# Altium schematic symbol library TI Analog Comparator.SchLib: 34 symbols
Pins are listed as number, name and electrical type; pins without a type are passive.

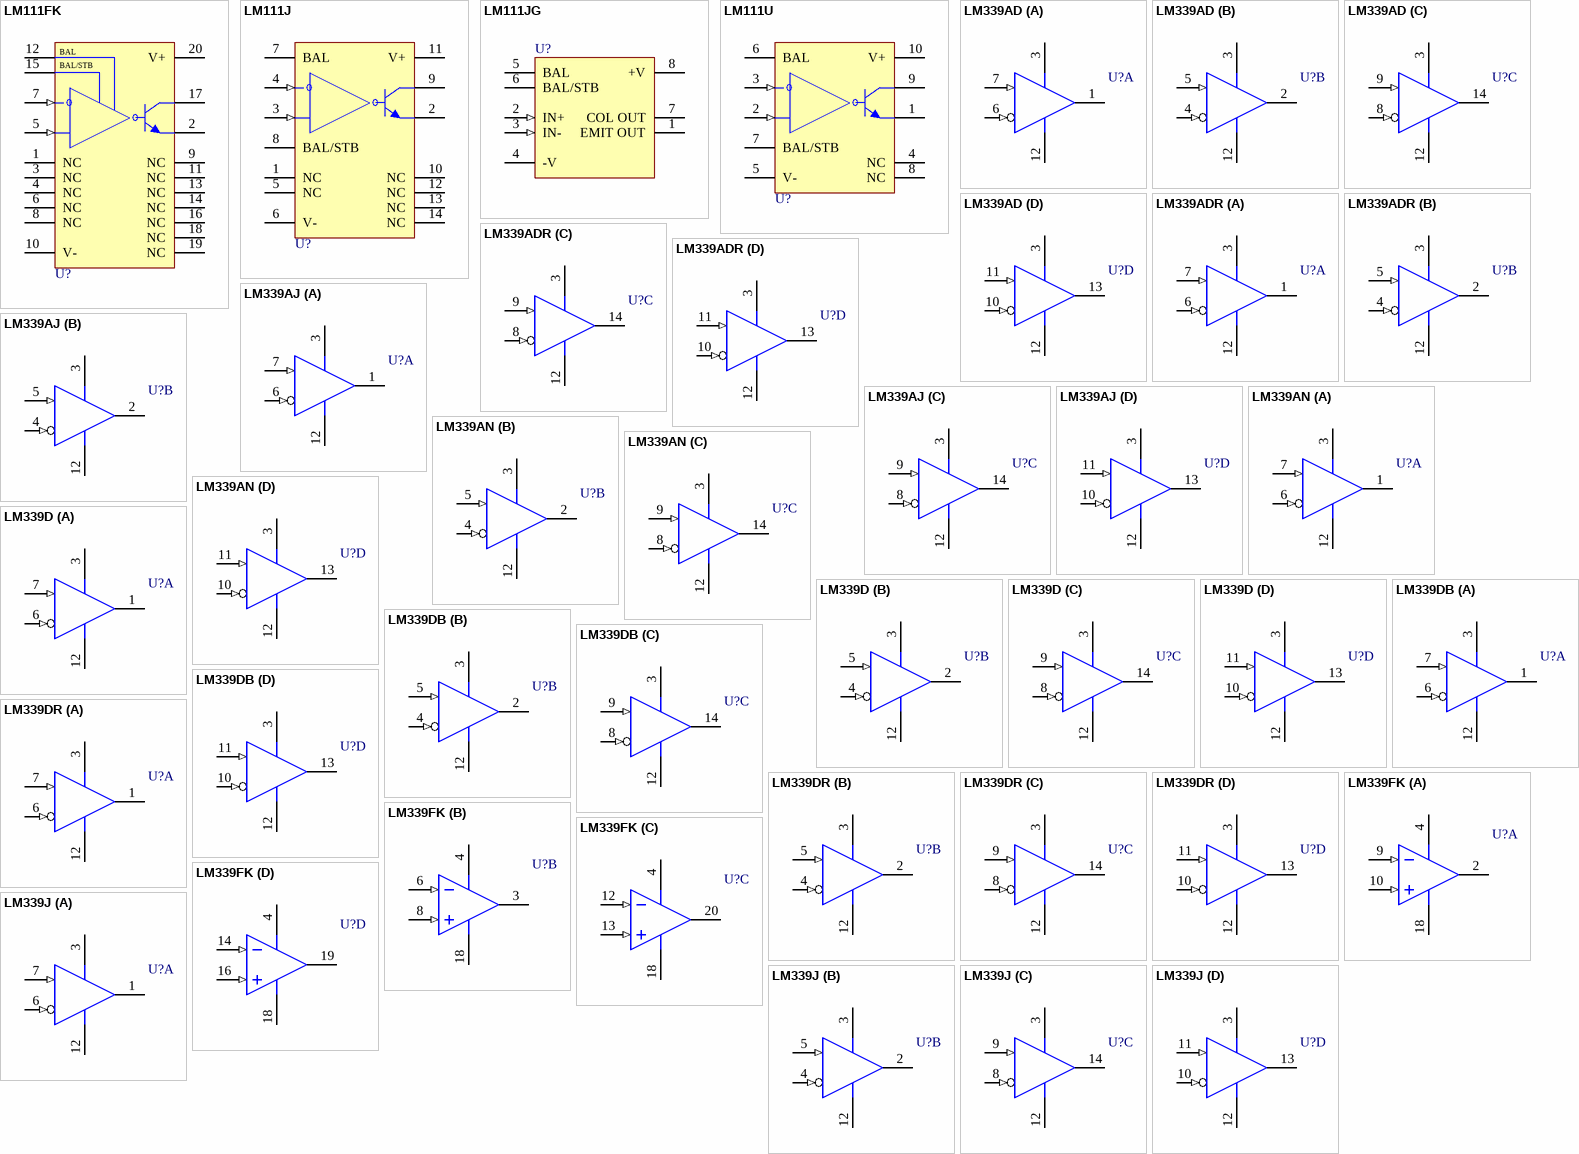
[diagram p0: symbols LM111FK to LM339J]

## LM111FK
designator U?
Differential Comparator with Strobe; Note: Pins 1, 3, 4, 6, 8, 9, 11, 13, 14, 16, 18 and 19 are NC pins.; Published: 16-Jan-2001; LatestRevisionDate: 20-Jul-2007; LatestRevisionNote: Sch Symbol changed.; DatasheetVersion: Feb-1992; PackageVersion: 1998; PackageReference: FK020; Publisher: Altium Limited; PackageDescription: Leadless Chip Carrier; 20 Terminals; Body 8.9 x 8.9 mm; ComponentLink1Description: Manufacturer Link; ComponentLink1URL: http://www.ti.com/; ComponentLink2Description: Datasheet; ComponentLink2URL: http://www-s.ti.com/sc/ds/lm111.pdf
footprint FK020 (Leadless Chip Carrier; 20 Terminals; Body 8.9 x 8.9 mm)
simulation model LM111 (SUBCKT)
pins: 1 NC, 2 EM OUT, 3 NC, 4 NC, 5 IN+ (in), 6 NC, 7 IN- (in), 8 NC, 9 NC, 10 V- (power), 11 NC, 12 BAL, 13 NC, 14 NC, 15 BAL/STB, 16 NC, 17 COL OUT, 18 NC, 19 NC, 20 V+ (power)

## LM111J
designator U?
Differential Comparator with Strobe; Note: Pins 1, 5, 10, 12, 13 and 14 are NC pins.; Published: 16-Jan-2001; LatestRevisionDate: 20-Jul-2007; LatestRevisionNote: Sch Symbol changed.; DatasheetVersion: Feb-1992; PackageVersion: Jun-1999; PackageReference: J014; Publisher: Altium Limited; PackageDescription: DIP; 14 Leads; Row Spacing 7.62 mm; Pitch 2.54 mm; ComponentLink1Description: Manufacturer Link; ComponentLink1URL: http://www.ti.com/; ComponentLink2Description: Datasheet; ComponentLink2URL: http://www-s.ti.com/sc/ds/lm111.pdf
footprint J014 (DIP; 14 Leads; Row Spacing 7.62 mm; Pitch 2.54 mm)
3D model J014 (DIP; 14 Leads; Row Spacing 7.62 mm; Pitch 2.54 mm)
simulation model LM111 (SUBCKT)
pins: 1 NC, 2 EM OUT, 3 IN+ (in), 4 IN- (in), 5 NC, 6 V- (power), 7 BAL, 8 BAL/STB, 9 COL OUT, 10 NC, 11 V+ (power), 12 NC, 13 NC, 14 NC

## LM111JG
designator U?
Differential Comparator with Strobe; Published: 16-Jan-2001; LatestRevisionDate: 04-Mar-2005; LatestRevisionNote: Stylized 3D Model Added.; DatasheetVersion: Feb-1992; PackageVersion: Jan-1995; PackageReference: JG008; Publisher: Altium Limited; PackageDescription: DIP; 8 Leads; Row Spacing 7.62 mm; Pitch 2.54 mm; ComponentLink1Description: Manufacturer Link; ComponentLink1URL: http://www.ti.com/; ComponentLink2Description: Datasheet; ComponentLink2URL: http://www-s.ti.com/sc/ds/lm111.pdf
footprint JG008 (DIP; 8 Leads; Row Spacing 7.62 mm; Pitch 2.54 mm)
3D model JG008 (DIP; 8 Leads; Row Spacing 7.62 mm; Pitch 2.54 mm)
simulation model LM111 (SUBCKT)
pins: 1 EMIT OUT (oe), 2 IN+ (in), 3 IN- (in), 4 -V (power), 5 BAL, 6 BAL/STB, 7 COL OUT (oc), 8 +V (power)

## LM111U
designator U?
Differential Comparator with Strobe; Note: Pins 4 and 8 are NC pins.; Published: 16-Jan-2001; LatestRevisionDate: 20-Jul-2007; LatestRevisionNote: Sch Symbol changed.; DatasheetVersion: Feb-1992; PackageVersion: Dec-1995; PackageReference: U010; Publisher: Altium Limited; PackageDescription: DFP; 10 Leads; Body 7.1 x 6.4 mm (LxW max); Pitch 1.27 mm; Code_JEDEC: MO-092-AA; ComponentLink1Description: Manufacturer Link; ComponentLink1URL: http://www.ti.com/; ComponentLink2Description: Datasheet; ComponentLink2URL: http://www-s.ti.com/sc/ds/lm111.pdf
footprint U010 (DFP; 10 Leads; Body 7.1 x 6.4 mm (LxW max); Pitch 1.27 mm)
3D model U010 (DFP; 10 Leads; Body 7.1 x 6.4 mm (LxW max); Pitch 1.27 mm)
simulation model LM111 (SUBCKT)
pins: 1 EM OUT, 2 IN+ (in), 3 IN- (in), 4 NC, 5 V- (power), 6 BAL, 7 BAL/STB, 8 NC, 9 COL OUT, 10 V+ (power)

## LM339AD
designator U?
Quad Differential Comparator; Published: 15-Apr-2002; LatestRevisionDate: 13-Apr-2006; LatestRevisionNote: IPC-7351 Footprint Added.; DatasheetVersion: Apr-1988; PackageVersion: Jan-1998; PackageReference: D014; Publisher: Altium Limited; PackageDescription: 14-Pin Small Outline Integrated Circuit 1.27 mm Pitch; Code_IPC: SOIC127P600-14; ComponentLink1Description: Manufacturer Link; ComponentLink1URL: http://www.ti.com/; ComponentLink2Description: Datasheet; ComponentLink2URL: http://www-s.ti.com/sc/ds/lm139a.pdf
footprint D014_N (SOIC, 14-Leads, Body 8.7x3.9mm, Pitch 1.27mm, IPC Medium Density)
footprint D014_L (SOIC, 14-Leads, Body 8.7x3.9mm, Pitch 1.27mm, IPC High Density)
footprint D014_M (SOIC, 14-Leads, Body 8.7x3.9mm, Pitch 1.27mm, IPC Low Density)
3D model D014 (14-Pin Small Outline Integrated Circuit 1.27 mm Pitch)
pins on every part: 3 VCC (power), 12 GND (power)
part A pins: 1 OUT (oc), 6 IN- (in), 7 IN+ (in)
part B pins: 2 OUT (oc), 4 IN- (in), 5 IN+ (in)
part C pins: 8 IN- (in), 9 IN+ (in), 14 OUT (oc)
part D pins: 10 IN- (in), 11 IN+ (in), 13 OUT (oc)

## LM339ADR
designator U?
Quad Differential Comparator; Published: 15-Apr-2002; LatestRevisionDate: 13-Apr-2006; LatestRevisionNote: IPC-7351 Footprint Added.; DatasheetVersion: Apr-1988; PackageVersion: Jan-1998; PackageReference: D014; Publisher: Altium Limited; PackageDescription: 14-Pin Small Outline Integrated Circuit 1.27 mm Pitch; Code_IPC: SOIC127P600-14; ComponentLink1Description: Manufacturer Link; ComponentLink1URL: http://www.ti.com/; ComponentLink2Description: Datasheet; ComponentLink2URL: http://www-s.ti.com/sc/ds/lm139a.pdf
footprint D014_N (SOIC, 14-Leads, Body 8.7x3.9mm, Pitch 1.27mm, IPC Medium Density)
footprint D014_L (SOIC, 14-Leads, Body 8.7x3.9mm, Pitch 1.27mm, IPC High Density)
footprint D014_M (SOIC, 14-Leads, Body 8.7x3.9mm, Pitch 1.27mm, IPC Low Density)
3D model D014 (14-Pin Small Outline Integrated Circuit 1.27 mm Pitch)
pins on every part: 3 VCC (power), 12 GND (power)
part A pins: 1 OUT (oc), 6 IN- (in), 7 IN+ (in)
part B pins: 2 OUT (oc), 4 IN- (in), 5 IN+ (in)
part C pins: 8 IN- (in), 9 IN+ (in), 14 OUT (oc)
part D pins: 10 IN- (in), 11 IN+ (in), 13 OUT (oc)

## LM339AJ
designator U?
Quad Differential Comparator; Published: 15-Apr-2002; LatestRevisionDate: 04-Mar-2005; LatestRevisionNote: Stylized 3D Model Added.; DatasheetVersion: Apr-1988; PackageVersion: Jun-1999; PackageReference: J014; Publisher: Altium Limited; PackageDescription: DIP; 14 Leads; Row Spacing 7.62 mm; Pitch 2.54 mm; ComponentLink1Description: Manufacturer Link; ComponentLink1URL: http://www.ti.com/; ComponentLink2Description: Datasheet; ComponentLink2URL: http://www-s.ti.com/sc/ds/lm139a.pdf
footprint J014 (DIP; 14 Leads; Row Spacing 7.62 mm; Pitch 2.54 mm)
3D model J014 (DIP; 14 Leads; Row Spacing 7.62 mm; Pitch 2.54 mm)
pins on every part: 3 VCC (power), 12 GND (power)
part A pins: 1 OUT (oc), 6 IN- (in), 7 IN+ (in)
part B pins: 2 OUT (oc), 4 IN- (in), 5 IN+ (in)
part C pins: 8 IN- (in), 9 IN+ (in), 14 OUT (oc)
part D pins: 10 IN- (in), 11 IN+ (in), 13 OUT (oc)

## LM339AN
designator U?
Quad Differential Comparator; Published: 15-Apr-2002; LatestRevisionDate: 04-Mar-2005; LatestRevisionNote: Stylized 3D Model Added.; DatasheetVersion: Apr-1988; PackageVersion: Oct-1995; PackageReference: N014; Publisher: Altium Limited; PackageDescription: DIP; 14 Leads; Row Spacing 7.62 mm; Pitch 2.54 mm; ComponentLink1Description: Manufacturer Link; ComponentLink1URL: http://www.ti.com/; ComponentLink2Description: Datasheet; ComponentLink2URL: http://www-s.ti.com/sc/ds/lm139a.pdf
footprint N014 (DIP; 14 Leads; Row Spacing 7.62 mm; Pitch 2.54 mm)
3D model N014 (DIP; 14 Leads; Row Spacing 7.62 mm; Pitch 2.54 mm)
pins on every part: 3 VCC (power), 12 GND (power)
part A pins: 1 OUT (oc), 6 IN- (in), 7 IN+ (in)
part B pins: 2 OUT (oc), 4 IN- (in), 5 IN+ (in)
part C pins: 8 IN- (in), 9 IN+ (in), 14 OUT (oc)
part D pins: 10 IN- (in), 11 IN+ (in), 13 OUT (oc)

## LM339D
designator U?
Quad Differential Comparator; Published: 16-Jan-2001; LatestRevisionDate: 20-Jul-2007; LatestRevisionNote: Sch Symbol changed.; DatasheetVersion: Nov-1996; PackageVersion: Jan-1998; PackageReference: D014; Publisher: Altium Limited; PackageDescription: 14-Pin Small Outline Integrated Circuit 1.27 mm Pitch; Code_IPC: SOIC127P600-14; ComponentLink1Description: Manufacturer Link; ComponentLink1URL: http://www.ti.com/; ComponentLink2Description: Datasheet; ComponentLink2URL: http://www-s.ti.com/sc/ds/lm339.pdf
footprint D014_N (SOIC, 14-Leads, Body 8.7x3.9mm, Pitch 1.27mm, IPC Medium Density)
footprint D014_L (SOIC, 14-Leads, Body 8.7x3.9mm, Pitch 1.27mm, IPC High Density)
footprint D014_M (SOIC, 14-Leads, Body 8.7x3.9mm, Pitch 1.27mm, IPC Low Density)
3D model D014 (14-Pin Small Outline Integrated Circuit 1.27 mm Pitch)
simulation model LM339 (SUBCKT)
pins on every part: 3 VCC (power), 12 GND (power)
part A pins: 1 OUT (oc), 6 IN- (in), 7 IN+ (in)
part B pins: 2 OUT (oc), 4 IN- (in), 5 IN+ (in)
part C pins: 8 IN- (in), 9 IN+ (in), 14 OUT (oc)
part D pins: 10 IN- (in), 11 IN+ (in), 13 OUT (oc)

## LM339DB
designator U?
Quad Differential Comparator; Published: 16-Jan-2001; LatestRevisionDate: 20-Jul-2007; LatestRevisionNote: Sch Symbol changed.; DatasheetVersion: Nov-1996; PackageVersion: May-1999; PackageReference: DB014; Publisher: Altium Limited; PackageDescription: 14-Pin Plastic Small Outline Package 0.65 mm Pitch; Code_JEDEC: MO-150-AB; Code_IPC: SOP65P780-14; ComponentLink1Description: Manufacturer Link; ComponentLink1URL: http://www.ti.com/; ComponentLink2Description: Datasheet; ComponentLink2URL: http://www-s.ti.com/sc/ds/lm339.pdf
footprint DB014_N (SOP, 14-Leads, Body 6.2x5.3mm, Pitch 0.65mm, IPC Medium Density)
footprint DB014_L (SOP, 14-Leads, Body 6.2x5.3mm, Pitch 0.65mm, IPC High Density)
footprint DB014_M (SOP, 14-Leads, Body 6.2x5.3mm, Pitch 0.65mm, IPC Low Density)
3D model DB014 (14-Pin Plastic Small Outline Package 0.65 mm Pitch)
simulation model LM339 (SUBCKT)
pins on every part: 3 VCC (power), 12 GND (power)
part A pins: 1 OUT (oc), 6 IN- (in), 7 IN+ (in)
part B pins: 2 OUT (oc), 4 IN- (in), 5 IN+ (in)
part C pins: 8 IN- (in), 9 IN+ (in), 14 OUT (oc)
part D pins: 10 IN- (in), 11 IN+ (in), 13 OUT (oc)

## LM339DR
designator U?
Quad Differential Comparator; Published: 15-Apr-2002; LatestRevisionDate: 13-Apr-2006; LatestRevisionNote: IPC-7351 Footprint Added.; DatasheetVersion: Apr-1988; PackageVersion: Jan-1998; PackageReference: D014; Publisher: Altium Limited; PackageDescription: 14-Pin Small Outline Integrated Circuit 1.27 mm Pitch; Code_IPC: SOIC127P600-14; ComponentLink1Description: Manufacturer Link; ComponentLink1URL: http://www.ti.com/; ComponentLink2Description: Datasheet; ComponentLink2URL: http://www-s.ti.com/sc/ds/lm139a.pdf
footprint D014_N (SOIC, 14-Leads, Body 8.7x3.9mm, Pitch 1.27mm, IPC Medium Density)
footprint D014_L (SOIC, 14-Leads, Body 8.7x3.9mm, Pitch 1.27mm, IPC High Density)
footprint D014_M (SOIC, 14-Leads, Body 8.7x3.9mm, Pitch 1.27mm, IPC Low Density)
3D model D014 (14-Pin Small Outline Integrated Circuit 1.27 mm Pitch)
pins on every part: 3 VCC (power), 12 GND (power)
part A pins: 1 OUT (oc), 6 IN- (in), 7 IN+ (in)
part B pins: 2 OUT (oc), 4 IN- (in), 5 IN+ (in)
part C pins: 8 IN- (in), 9 IN+ (in), 14 OUT (oc)
part D pins: 10 IN- (in), 11 IN+ (in), 13 OUT (oc)

## LM339FK
designator U?
Quad Differential Comparator; Note: Pins 1,5,7,11,15 and 17 are not connected or drawn; Published: 16-Jan-2001; LatestRevisionDate: 17-Jul-2002; LatestRevisionNote: Re-released for DXP Platform.; DatasheetVersion: Nov-1996; PackageVersion: 1998; PackageReference: FK020; Publisher: Altium Limited; PackageDescription: Leadless Chip Carrier; 20 Terminals; Body 8.9 x 8.9 mm; ComponentLink1Description: Manufacturer Link; ComponentLink1URL: http://www.ti.com/; ComponentLink2Description: Datasheet; ComponentLink2URL: http://www-s.ti.com/sc/ds/lm339.pdf
footprint FK020 (Leadless Chip Carrier; 20 Terminals; Body 8.9 x 8.9 mm)
simulation model LM339 (SUBCKT)
pins on every part: 4 V+ (power), 18 V- (power)
part A pins: 2 OUT (oc), 9 1IN- (in), 10 1IN+ (in)
part B pins: 3 OUT (oc), 6 IN- (in), 8 IN+ (in)
part C pins: 12 IN- (in), 13 IN+ (in), 20 OUT (oc)
part D pins: 14 IN- (in), 16 IN+ (in), 19 OUT (oc)

## LM339J
designator U?
Quad Differential Comparator; Published: 16-Jan-2001; LatestRevisionDate: 20-Jul-2007; LatestRevisionNote: Sch Symbol changed.; DatasheetVersion: Nov-1996; PackageVersion: Jun-1999; PackageReference: J014; Publisher: Altium Limited; PackageDescription: DIP; 14 Leads; Row Spacing 7.62 mm; Pitch 2.54 mm; ComponentLink1Description: Manufacturer Link; ComponentLink1URL: http://www.ti.com/; ComponentLink2Description: Datasheet; ComponentLink2URL: http://www-s.ti.com/sc/ds/lm339.pdf
footprint J014 (DIP; 14 Leads; Row Spacing 7.62 mm; Pitch 2.54 mm)
3D model J014 (DIP; 14 Leads; Row Spacing 7.62 mm; Pitch 2.54 mm)
simulation model LM339 (SUBCKT)
pins on every part: 3 VCC (power), 12 GND (power)
part A pins: 1 OUT (oc), 6 IN- (in), 7 IN+ (in)
part B pins: 2 OUT (oc), 4 IN- (in), 5 IN+ (in)
part C pins: 8 IN- (in), 9 IN+ (in), 14 OUT (oc)
part D pins: 10 IN- (in), 11 IN+ (in), 13 OUT (oc)

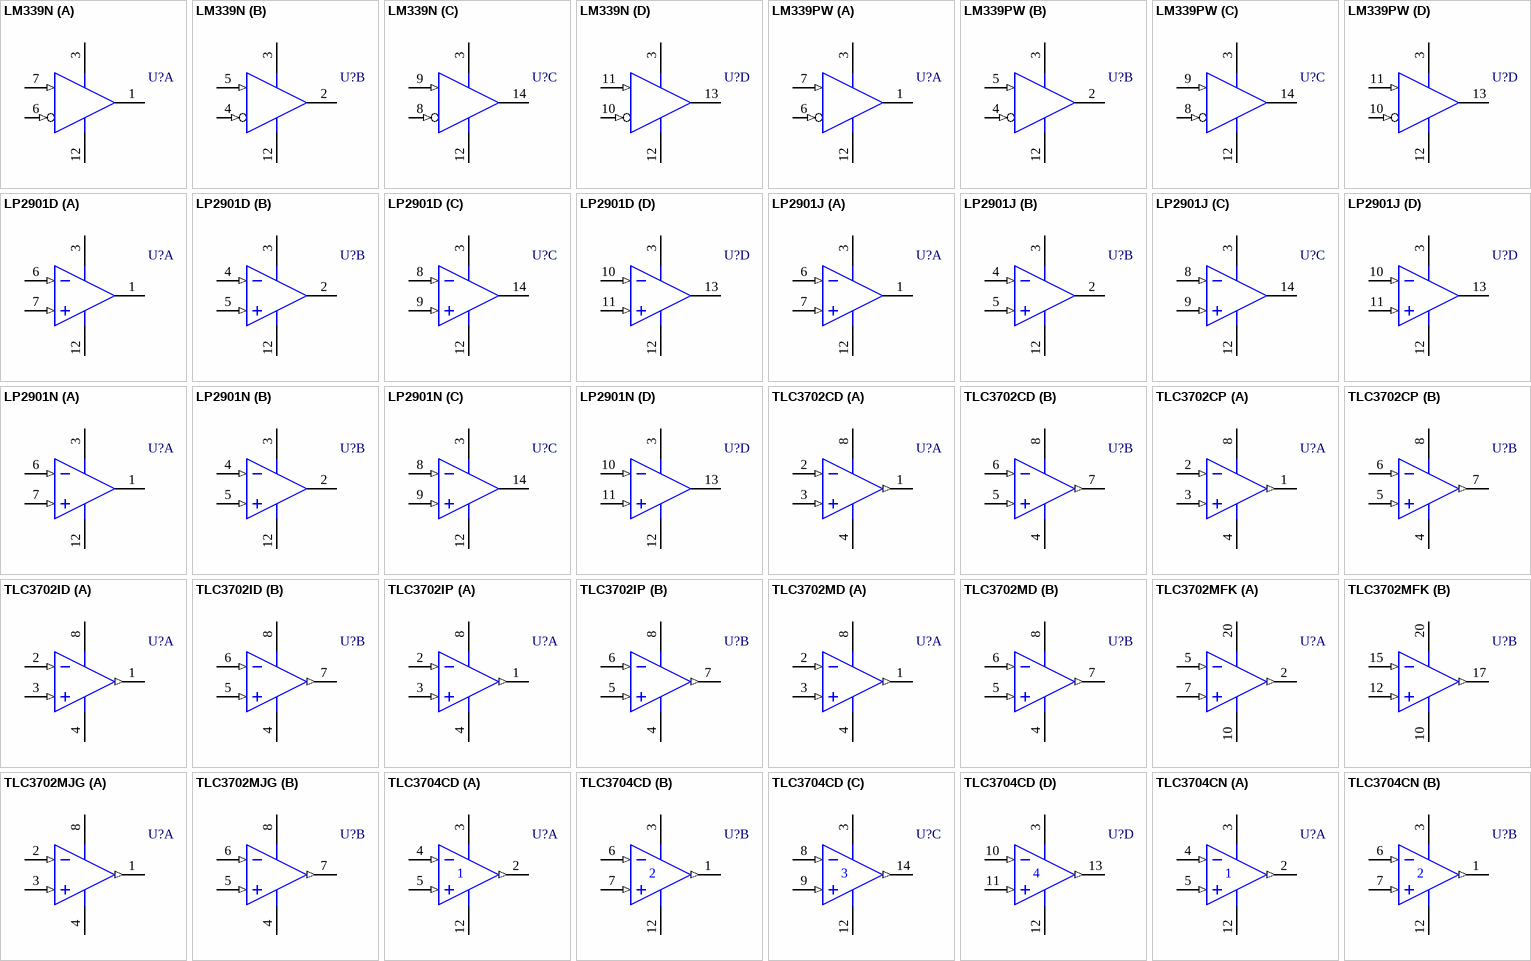
[diagram p1: symbols LM339N to TLC3704CN]

## LM339N
designator U?
Quad Differential Comparator; Published: 16-Jan-2001; LatestRevisionDate: 20-Jul-2007; LatestRevisionNote: Sch Symbol changed.; DatasheetVersion: Nov-1996; PackageVersion: Oct-1995; PackageReference: N014; Publisher: Altium Limited; PackageDescription: DIP; 14 Leads; Row Spacing 7.62 mm; Pitch 2.54 mm; ComponentLink1Description: Manufacturer Link; ComponentLink1URL: http://www.ti.com/; ComponentLink2Description: Datasheet; ComponentLink2URL: http://www-s.ti.com/sc/ds/lm339.pdf
footprint N014 (DIP; 14 Leads; Row Spacing 7.62 mm; Pitch 2.54 mm)
3D model N014 (DIP; 14 Leads; Row Spacing 7.62 mm; Pitch 2.54 mm)
simulation model LM339 (SUBCKT)
pins on every part: 3 VCC (power), 12 GND (power)
part A pins: 1 OUT (oc), 6 IN- (in), 7 IN+ (in)
part B pins: 2 OUT (oc), 4 IN- (in), 5 IN+ (in)
part C pins: 8 IN- (in), 9 IN+ (in), 14 OUT (oc)
part D pins: 10 IN- (in), 11 IN+ (in), 13 OUT (oc)

## LM339PW
designator U?
Quad Differential Comparator; Published: 16-Jan-2001; LatestRevisionDate: 20-Jul-2007; LatestRevisionNote: Sch Symbol changed.; DatasheetVersion: Nov-1996; PackageVersion: Feb-1999; PackageReference: PW014; Publisher: Altium Limited; PackageDescription: 14-Pin Thin Small Outline Package 0.65 mm Pitch; ComponentLink1Description: Manufacturer Link; ComponentLink1URL: http://www.ti.com/; ComponentLink2Description: Datasheet; ComponentLink2URL: http://www-s.ti.com/sc/ds/lm339.pdf
footprint PW014_N (TSOP, 14-Leads, Body 5x4.4mm, Pitch 0.65mm, IPC Medium Density)
footprint PW014_L (TSOP, 14-Leads, Body 5x4.4mm, Pitch 0.65mm, IPC High Density)
footprint PW014_M (TSOP, 14-Leads, Body 5x4.4mm, Pitch 0.65mm, IPC Low Density)
3D model PW014 (14-Pin Thin Small Outline Package 0.65 mm Pitch)
simulation model LM339 (SUBCKT)
pins on every part: 3 VCC (power), 12 GND (power)
part A pins: 1 OUT (oc), 6 IN- (in), 7 IN+ (in)
part B pins: 2 OUT (oc), 4 IN- (in), 5 IN+ (in)
part C pins: 8 IN- (in), 9 IN+ (in), 14 OUT (oc)
part D pins: 10 IN- (in), 11 IN+ (in), 13 OUT (oc)

## LP2901D
designator U?
Low Power Quad Differential Comparator; Published: 16-Jan-2001; LatestRevisionDate: 13-Apr-2006; LatestRevisionNote: IPC-7351 Footprint Added.; DatasheetVersion: May-1988; PackageVersion: Jan-1998; PackageReference: D014; Publisher: Altium Limited; PackageDescription: 14-Pin Small Outline Integrated Circuit 1.27 mm Pitch; Code_IPC: SOIC127P600-14; ComponentLink1Description: Manufacturer Link; ComponentLink1URL: http://www.ti.com/; ComponentLink2Description: Datasheet; ComponentLink2URL: http://www-s.ti.com/sc/ds/lp2901.pdf
footprint D014_N (SOIC, 14-Leads, Body 8.7x3.9mm, Pitch 1.27mm, IPC Medium Density)
footprint D014_L (SOIC, 14-Leads, Body 8.7x3.9mm, Pitch 1.27mm, IPC High Density)
footprint D014_M (SOIC, 14-Leads, Body 8.7x3.9mm, Pitch 1.27mm, IPC Low Density)
3D model D014 (14-Pin Small Outline Integrated Circuit 1.27 mm Pitch)
simulation model LP2901 (SUBCKT)
pins on every part: 3 V+ (power), 12 V- (power)
part A pins: 1 OUT (oc), 6 IN- (in), 7 IN+ (in)
part B pins: 2 OUT (oc), 4 IN- (in), 5 IN+ (in)
part C pins: 8 IN- (in), 9 IN+ (in), 14 OUT (oc)
part D pins: 10 IN- (in), 11 IN+ (in), 13 OUT (oc)

## LP2901J
designator U?
Low Power Quad Differential Comparator; Published: 16-Jan-2001; LatestRevisionDate: 04-Mar-2005; LatestRevisionNote: Stylized 3D Model Added.; DatasheetVersion: May-1988; PackageVersion: Jun-1999; PackageReference: J014; Publisher: Altium Limited; PackageDescription: DIP; 14 Leads; Row Spacing 7.62 mm; Pitch 2.54 mm; ComponentLink1Description: Manufacturer Link; ComponentLink1URL: http://www.ti.com/; ComponentLink2Description: Datasheet; ComponentLink2URL: http://www-s.ti.com/sc/ds/lp2901.pdf
footprint J014 (DIP; 14 Leads; Row Spacing 7.62 mm; Pitch 2.54 mm)
3D model J014 (DIP; 14 Leads; Row Spacing 7.62 mm; Pitch 2.54 mm)
simulation model LP2901 (SUBCKT)
pins on every part: 3 V+ (power), 12 V- (power)
part A pins: 1 OUT (oc), 6 IN- (in), 7 IN+ (in)
part B pins: 2 OUT (oc), 4 IN- (in), 5 IN+ (in)
part C pins: 8 IN- (in), 9 IN+ (in), 14 OUT (oc)
part D pins: 10 IN- (in), 11 IN+ (in), 13 OUT (oc)

## LP2901N
designator U?
Low Power Quad Differential Comparator; Published: 16-Jan-2001; LatestRevisionDate: 04-Mar-2005; LatestRevisionNote: Stylized 3D Model Added.; DatasheetVersion: May-1988; PackageVersion: Oct-1995; PackageReference: N014; Publisher: Altium Limited; PackageDescription: DIP; 14 Leads; Row Spacing 7.62 mm; Pitch 2.54 mm; ComponentLink1Description: Manufacturer Link; ComponentLink1URL: http://www.ti.com/; ComponentLink2Description: Datasheet; ComponentLink2URL: http://www-s.ti.com/sc/ds/lp2901.pdf
footprint N014 (DIP; 14 Leads; Row Spacing 7.62 mm; Pitch 2.54 mm)
3D model N014 (DIP; 14 Leads; Row Spacing 7.62 mm; Pitch 2.54 mm)
simulation model LP2901 (SUBCKT)
pins on every part: 3 V+ (power), 12 V- (power)
part A pins: 1 OUT (oc), 6 IN- (in), 7 IN+ (in)
part B pins: 2 OUT (oc), 4 IN- (in), 5 IN+ (in)
part C pins: 8 IN- (in), 9 IN+ (in), 14 OUT (oc)
part D pins: 10 IN- (in), 11 IN+ (in), 13 OUT (oc)

## TLC3702CD
designator U?
Dual Micropower LinCMOS Voltage Comparator; Published: 23-Sep-2002; LatestRevisionDate: 13-Apr-2006; LatestRevisionNote: IPC-7351 Footprint Added.; DatasheetVersion: Nov-1998; PackageVersion: Jan-1998; PackageReference: D008; Publisher: Altium Limited; PackageDescription: 8-Pin Small Outline Integrated Circuit 1.27 mm Pitch; Code_IPC: SOIC127P600-8; ComponentLink1Description: Manufacturer Link; ComponentLink1URL: http://www.ti.com/; ComponentLink2Description: Datasheet; ComponentLink2URL: http://www-s.ti.com/sc/ds/tlc3702.pdf
footprint D008_L (SOIC, 8-Leads, Body 4.9x3.9mm, Pitch 1.27mm, IPC High Density)
footprint D008_M (SOIC, 8-Leads, Body 4.9x3.9mm, Pitch 1.27mm, IPC Low Density)
footprint D008_M (SOIC, 8-Leads, Body 4.9x3.9mm, Pitch 1.27mm, IPC Low Density)
3D model D008 (8-Pin Small Outline Integrated Circuit 1.27 mm Pitch)
simulation model TLC3702 (SUBCKT)
pins on every part: 4 GND (power), 8 V+ (power)
part A pins: 1 OUT (out), 2 IN- (in), 3 IN+ (in)
part B pins: 5 IN+ (in), 6 IN- (in), 7 OUT (out)

## TLC3702CP
designator U?
Dual Micropower LinCMOS Voltage Comparator; Published: 23-Sep-2002; LatestRevisionDate: 04-Mar-2005; LatestRevisionNote: Stylized 3D Model Added.; DatasheetVersion: Nov-1998; PackageVersion: Jun-1999; PackageReference: P008; Publisher: Altium Limited; PackageDescription: DIP; 8 Leads; Row Spacing 7.62 mm; Pitch 2.54 mm; Code_JEDEC: MO-001-AN; ComponentLink1Description: Manufacturer Link; ComponentLink1URL: http://www.ti.com/; ComponentLink2Description: Datasheet; ComponentLink2URL: http://www-s.ti.com/sc/ds/tlc3702.pdf
footprint P008 (DIP; 8 Leads; Row Spacing 7.62 mm; Pitch 2.54 mm)
3D model P008 (DIP; 8 Leads; Row Spacing 7.62 mm; Pitch 2.54 mm)
simulation model TLC3702 (SUBCKT)
pins on every part: 4 GND (power), 8 V+ (power)
part A pins: 1 OUT (out), 2 IN- (in), 3 IN+ (in)
part B pins: 5 IN+ (in), 6 IN- (in), 7 OUT (out)

## TLC3702ID
designator U?
Dual Micropower LinCMOS Voltage Comparator; Published: 23-Sep-2002; LatestRevisionDate: 13-Apr-2006; LatestRevisionNote: IPC-7351 Footprint Added.; DatasheetVersion: Nov-1998; PackageVersion: Jan-1998; PackageReference: D008; Publisher: Altium Limited; PackageDescription: 8-Pin Small Outline Integrated Circuit 1.27 mm Pitch; Code_IPC: SOIC127P600-8; ComponentLink1Description: Manufacturer Link; ComponentLink1URL: http://www.ti.com/; ComponentLink2Description: Datasheet; ComponentLink2URL: http://www-s.ti.com/sc/ds/tlc3702.pdf
footprint D008_L (SOIC, 8-Leads, Body 4.9x3.9mm, Pitch 1.27mm, IPC High Density)
footprint D008_M (SOIC, 8-Leads, Body 4.9x3.9mm, Pitch 1.27mm, IPC Low Density)
footprint D008_M (SOIC, 8-Leads, Body 4.9x3.9mm, Pitch 1.27mm, IPC Low Density)
3D model D008 (8-Pin Small Outline Integrated Circuit 1.27 mm Pitch)
simulation model TLC3702 (SUBCKT)
pins on every part: 4 GND (power), 8 V+ (power)
part A pins: 1 OUT (out), 2 IN- (in), 3 IN+ (in)
part B pins: 5 IN+ (in), 6 IN- (in), 7 OUT (out)

## TLC3702IP
designator U?
Dual Micropower LinCMOS Voltage Comparator; Published: 23-Sep-2002; LatestRevisionDate: 04-Mar-2005; LatestRevisionNote: Stylized 3D Model Added.; DatasheetVersion: Nov-1998; PackageVersion: Jun-1999; PackageReference: P008; Publisher: Altium Limited; PackageDescription: DIP; 8 Leads; Row Spacing 7.62 mm; Pitch 2.54 mm; Code_JEDEC: MO-001-AN; ComponentLink1Description: Manufacturer Link; ComponentLink1URL: http://www.ti.com/; ComponentLink2Description: Datasheet; ComponentLink2URL: http://www-s.ti.com/sc/ds/tlc3702.pdf
footprint P008 (DIP; 8 Leads; Row Spacing 7.62 mm; Pitch 2.54 mm)
3D model P008 (DIP; 8 Leads; Row Spacing 7.62 mm; Pitch 2.54 mm)
simulation model TLC3702 (SUBCKT)
pins on every part: 4 GND (power), 8 V+ (power)
part A pins: 1 OUT (out), 2 IN- (in), 3 IN+ (in)
part B pins: 5 IN+ (in), 6 IN- (in), 7 OUT (out)

## TLC3702MD
designator U?
Dual Micropower LinCMOS Voltage Comparator; Published: 23-Sep-2002; LatestRevisionDate: 13-Apr-2006; LatestRevisionNote: IPC-7351 Footprint Added.; DatasheetVersion: Nov-1998; PackageVersion: Jan-1998; PackageReference: D008; Publisher: Altium Limited; PackageDescription: 8-Pin Small Outline Integrated Circuit 1.27 mm Pitch; Code_IPC: SOIC127P600-8; ComponentLink1Description: Manufacturer Link; ComponentLink1URL: http://www.ti.com/; ComponentLink2Description: Datasheet; ComponentLink2URL: http://www-s.ti.com/sc/ds/tlc3702.pdf
footprint D008_L (SOIC, 8-Leads, Body 4.9x3.9mm, Pitch 1.27mm, IPC High Density)
footprint D008_M (SOIC, 8-Leads, Body 4.9x3.9mm, Pitch 1.27mm, IPC Low Density)
footprint D008_M (SOIC, 8-Leads, Body 4.9x3.9mm, Pitch 1.27mm, IPC Low Density)
3D model D008 (8-Pin Small Outline Integrated Circuit 1.27 mm Pitch)
simulation model TLC3702 (SUBCKT)
pins on every part: 4 GND (power), 8 V+ (power)
part A pins: 1 OUT (out), 2 IN- (in), 3 IN+ (in)
part B pins: 5 IN+ (in), 6 IN- (in), 7 OUT (out)

## TLC3702MFK
designator U?
Dual Micropower LinCMOS Voltage Comparator; Note: 1,3,4,6,8,9,11,13,14,16,18 and 19 are NC pins and not drawn.; Published: 23-Sep-2002; DatasheetVersion: Nov-1998; PackageVersion: 1998; PackageReference: FK020; Publisher: Altium Limited; PackageDescription: Leadless Chip Carrier; 20 Terminals; Body 8.9 x 8.9 mm; ComponentLink1Description: Manufacturer Link; ComponentLink1URL: http://www.ti.com/; ComponentLink2Description: Datasheet; ComponentLink2URL: http://www-s.ti.com/sc/ds/tlc3702.pdf
footprint FK020 (Leadless Chip Carrier; 20 Terminals; Body 8.9 x 8.9 mm)
simulation model TLC3702 (SUBCKT)
pins on every part: 10 GND (power), 20 V+ (power)
part A pins: 2 OUT (out), 5 IN- (in), 7 IN+ (in)
part B pins: 12 IN+ (in), 15 IN- (in), 17 OUT (out)

## TLC3702MJG
designator U?
Dual Micropower LinCMOS Voltage Comparator; Published: 23-Sep-2002; LatestRevisionDate: 04-Mar-2005; LatestRevisionNote: Stylized 3D Model Added.; DatasheetVersion: Nov-1998; PackageVersion: Jan-1995; PackageReference: JG008; Publisher: Altium Limited; PackageDescription: DIP; 8 Leads; Row Spacing 7.62 mm; Pitch 2.54 mm; ComponentLink1Description: Manufacturer Link; ComponentLink1URL: http://www.ti.com/; ComponentLink2Description: Datasheet; ComponentLink2URL: http://www-s.ti.com/sc/ds/tlc3702.pdf
footprint JG008 (DIP; 8 Leads; Row Spacing 7.62 mm; Pitch 2.54 mm)
3D model JG008 (DIP; 8 Leads; Row Spacing 7.62 mm; Pitch 2.54 mm)
simulation model TLC3702 (SUBCKT)
pins on every part: 4 GND (power), 8 V+ (power)
part A pins: 1 OUT (out), 2 IN- (in), 3 IN+ (in)
part B pins: 5 IN+ (in), 6 IN- (in), 7 OUT (out)

## TLC3704CD
designator U?
Quad Micropower LinCMOS Voltage Comparator; Published: 23-Sep-2002; LatestRevisionDate: 13-Apr-2006; LatestRevisionNote: IPC-7351 Footprint Added.; DatasheetVersion: Jan-2002; PackageVersion: Jan-1998; PackageReference: D014; Publisher: Altium Limited; PackageDescription: 14-Pin Small Outline Integrated Circuit 1.27 mm Pitch; Code_IPC: SOIC127P600-14; ComponentLink1Description: Manufacturer Link; ComponentLink1URL: http://www.ti.com/; ComponentLink2Description: Datasheet; ComponentLink2URL: http://www-s.ti.com/sc/ds/tlc3704.pdf
footprint D014_N (SOIC, 14-Leads, Body 8.7x3.9mm, Pitch 1.27mm, IPC Medium Density)
footprint D014_L (SOIC, 14-Leads, Body 8.7x3.9mm, Pitch 1.27mm, IPC High Density)
footprint D014_M (SOIC, 14-Leads, Body 8.7x3.9mm, Pitch 1.27mm, IPC Low Density)
3D model D014 (14-Pin Small Outline Integrated Circuit 1.27 mm Pitch)
simulation model TLC3704 (SUBCKT)
pins on every part: 3 VCC (power), 12 GND (power)
part A pins: 2 OUT (out), 4 IN- (in), 5 IN+ (in)
part B pins: 1 OUT (out), 6 IN- (in), 7 IN+ (in)
part C pins: 8 IN- (in), 9 IN+ (in), 14 OUT (out)
part D pins: 10 IN- (in), 11 IN+ (in), 13 OUT (out)

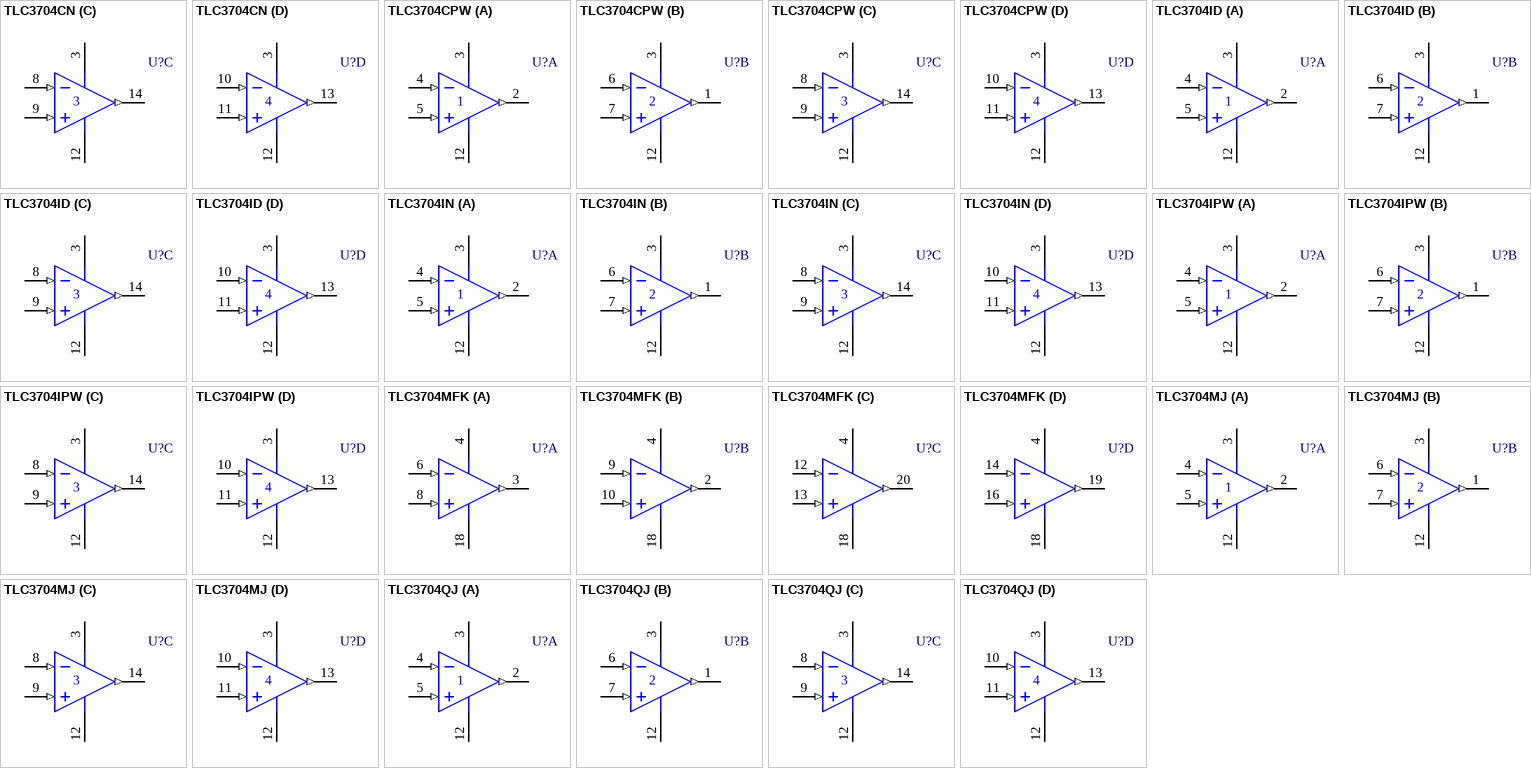
[diagram p2: symbols TLC3704CN to TLC3704QJ]

## TLC3704CN
designator U?
Quad Micropower LinCMOS Voltage Comparator; Published: 23-Sep-2002; LatestRevisionDate: 04-Mar-2005; LatestRevisionNote: Stylized 3D Model Added.; DatasheetVersion: Jan-2002; PackageVersion: Oct-1995; PackageReference: N014; Publisher: Altium Limited; PackageDescription: DIP; 14 Leads; Row Spacing 7.62 mm; Pitch 2.54 mm; ComponentLink1Description: Manufacturer Link; ComponentLink1URL: http://www.ti.com/; ComponentLink2Description: Datasheet; ComponentLink2URL: http://www-s.ti.com/sc/ds/tlc3704.pdf
footprint N014 (DIP; 14 Leads; Row Spacing 7.62 mm; Pitch 2.54 mm)
3D model N014 (DIP; 14 Leads; Row Spacing 7.62 mm; Pitch 2.54 mm)
simulation model TLC3704 (SUBCKT)
pins on every part: 3 VCC (power), 12 GND (power)
part A pins: 2 OUT (out), 4 IN- (in), 5 IN+ (in)
part B pins: 1 OUT (out), 6 IN- (in), 7 IN+ (in)
part C pins: 8 IN- (in), 9 IN+ (in), 14 OUT (out)
part D pins: 10 IN- (in), 11 IN+ (in), 13 OUT (out)

## TLC3704CPW
designator U?
Quad Micropower LinCMOS Voltage Comparator; Published: 23-Sep-2002; LatestRevisionDate: 16-Oct-2006; LatestRevisionNote: IPC-7351 Footprint Added.; DatasheetVersion: Jan-2002; PackageVersion: Feb-1999; PackageReference: PW014; Publisher: Altium Limited; PackageDescription: 14-Pin Thin Small Outline Package 0.65 mm Pitch; ComponentLink1Description: Manufacturer Link; ComponentLink1URL: http://www.ti.com/; ComponentLink2Description: Datasheet; ComponentLink2URL: http://www-s.ti.com/sc/ds/tlc3704.pdf
footprint PW014_N (TSOP, 14-Leads, Body 5x4.4mm, Pitch 0.65mm, IPC Medium Density)
footprint PW014_L (TSOP, 14-Leads, Body 5x4.4mm, Pitch 0.65mm, IPC High Density)
footprint PW014_M (TSOP, 14-Leads, Body 5x4.4mm, Pitch 0.65mm, IPC Low Density)
3D model PW014 (14-Pin Thin Small Outline Package 0.65 mm Pitch)
simulation model TLC3704 (SUBCKT)
pins on every part: 3 VCC (power), 12 GND (power)
part A pins: 2 OUT (out), 4 IN- (in), 5 IN+ (in)
part B pins: 1 OUT (out), 6 IN- (in), 7 IN+ (in)
part C pins: 8 IN- (in), 9 IN+ (in), 14 OUT (out)
part D pins: 10 IN- (in), 11 IN+ (in), 13 OUT (out)

## TLC3704ID
designator U?
Quad Micropower LinCMOS Voltage Comparator; Published: 23-Sep-2002; LatestRevisionDate: 13-Apr-2006; LatestRevisionNote: IPC-7351 Footprint Added.; DatasheetVersion: Jan-2002; PackageVersion: Jan-1998; PackageReference: D014; Publisher: Altium Limited; PackageDescription: 14-Pin Small Outline Integrated Circuit 1.27 mm Pitch; Code_IPC: SOIC127P600-14; ComponentLink1Description: Manufacturer Link; ComponentLink1URL: http://www.ti.com/; ComponentLink2Description: Datasheet; ComponentLink2URL: http://www-s.ti.com/sc/ds/tlc3704.pdf
footprint D014_N (SOIC, 14-Leads, Body 8.7x3.9mm, Pitch 1.27mm, IPC Medium Density)
footprint D014_L (SOIC, 14-Leads, Body 8.7x3.9mm, Pitch 1.27mm, IPC High Density)
footprint D014_M (SOIC, 14-Leads, Body 8.7x3.9mm, Pitch 1.27mm, IPC Low Density)
3D model D014 (14-Pin Small Outline Integrated Circuit 1.27 mm Pitch)
simulation model TLC3704 (SUBCKT)
pins on every part: 3 VCC (power), 12 GND (power)
part A pins: 2 OUT (out), 4 IN- (in), 5 IN+ (in)
part B pins: 1 OUT (out), 6 IN- (in), 7 IN+ (in)
part C pins: 8 IN- (in), 9 IN+ (in), 14 OUT (out)
part D pins: 10 IN- (in), 11 IN+ (in), 13 OUT (out)

## TLC3704IN
designator U?
Quad Micropower LinCMOS Voltage Comparator; Published: 23-Sep-2002; LatestRevisionDate: 04-Mar-2005; LatestRevisionNote: Stylized 3D Model Added.; DatasheetVersion: Jan-2002; PackageVersion: Oct-1995; PackageReference: N014; Publisher: Altium Limited; PackageDescription: DIP; 14 Leads; Row Spacing 7.62 mm; Pitch 2.54 mm; ComponentLink1Description: Manufacturer Link; ComponentLink1URL: http://www.ti.com/; ComponentLink2Description: Datasheet; ComponentLink2URL: http://www-s.ti.com/sc/ds/tlc3704.pdf
footprint N014 (DIP; 14 Leads; Row Spacing 7.62 mm; Pitch 2.54 mm)
3D model N014 (DIP; 14 Leads; Row Spacing 7.62 mm; Pitch 2.54 mm)
simulation model TLC3704 (SUBCKT)
pins on every part: 3 VCC (power), 12 GND (power)
part A pins: 2 OUT (out), 4 IN- (in), 5 IN+ (in)
part B pins: 1 OUT (out), 6 IN- (in), 7 IN+ (in)
part C pins: 8 IN- (in), 9 IN+ (in), 14 OUT (out)
part D pins: 10 IN- (in), 11 IN+ (in), 13 OUT (out)

## TLC3704IPW
designator U?
Quad Micropower LinCMOS Voltage Comparator; Published: 23-Sep-2002; LatestRevisionDate: 16-Oct-2006; LatestRevisionNote: IPC-7351 Footprint Added.; DatasheetVersion: Jan-2002; PackageVersion: Feb-1999; PackageReference: PW014; Publisher: Altium Limited; PackageDescription: 14-Pin Thin Small Outline Package 0.65 mm Pitch; ComponentLink1Description: Manufacturer Link; ComponentLink1URL: http://www.ti.com/; ComponentLink2Description: Datasheet; ComponentLink2URL: http://www-s.ti.com/sc/ds/tlc3704.pdf
footprint PW014_N (TSOP, 14-Leads, Body 5x4.4mm, Pitch 0.65mm, IPC Medium Density)
footprint PW014_L (TSOP, 14-Leads, Body 5x4.4mm, Pitch 0.65mm, IPC High Density)
footprint PW014_M (TSOP, 14-Leads, Body 5x4.4mm, Pitch 0.65mm, IPC Low Density)
3D model PW014 (14-Pin Thin Small Outline Package 0.65 mm Pitch)
simulation model TLC3704 (SUBCKT)
pins on every part: 3 VCC (power), 12 GND (power)
part A pins: 2 OUT (out), 4 IN- (in), 5 IN+ (in)
part B pins: 1 OUT (out), 6 IN- (in), 7 IN+ (in)
part C pins: 8 IN- (in), 9 IN+ (in), 14 OUT (out)
part D pins: 10 IN- (in), 11 IN+ (in), 13 OUT (out)

## TLC3704MFK
designator U?
Quad Micropower LinCMOS Voltage Comparator; Note: 1,5,7,11,15 and 17 are NC pins and not drawn.; Published: 23-Sep-2002; DatasheetVersion: Jan-2002; PackageVersion: 1998; PackageReference: FK020; Publisher: Altium Limited; PackageDescription: Leadless Chip Carrier; 20 Terminals; Body 8.9 x 8.9 mm; ComponentLink1Description: Manufacturer Link; ComponentLink1URL: http://www.ti.com/; ComponentLink2Description: Datasheet; ComponentLink2URL: http://www-s.ti.com/sc/ds/tlc3704.pdf
footprint FK020 (Leadless Chip Carrier; 20 Terminals; Body 8.9 x 8.9 mm)
simulation model TLC3704 (SUBCKT)
pins on every part: 4 V+ (power), 18 GND (power)
part A pins: 3 OUT (out), 6 IN- (in), 8 IN+ (in)
part B pins: 2 OUT (out), 9 IN- (in), 10 IN+ (in)
part C pins: 12 IN- (in), 13 IN+ (in), 20 OUT (out)
part D pins: 14 IN- (in), 16 IN+ (in), 19 OUT (out)

## TLC3704MJ
designator U?
Quad Micropower LinCMOS Voltage Comparator; Published: 23-Sep-2002; LatestRevisionDate: 04-Mar-2005; LatestRevisionNote: Stylized 3D Model Added.; DatasheetVersion: Jan-2002; PackageVersion: Jun-1999; PackageReference: J014; Publisher: Altium Limited; PackageDescription: DIP; 14 Leads; Row Spacing 7.62 mm; Pitch 2.54 mm; ComponentLink1Description: Manufacturer Link; ComponentLink1URL: http://www.ti.com/; ComponentLink2Description: Datasheet; ComponentLink2URL: http://www-s.ti.com/sc/ds/tlc3704.pdf
footprint J014 (DIP; 14 Leads; Row Spacing 7.62 mm; Pitch 2.54 mm)
3D model J014 (DIP; 14 Leads; Row Spacing 7.62 mm; Pitch 2.54 mm)
simulation model TLC3704 (SUBCKT)
pins on every part: 3 VCC (power), 12 GND (power)
part A pins: 2 OUT (out), 4 IN- (in), 5 IN+ (in)
part B pins: 1 OUT (out), 6 IN- (in), 7 IN+ (in)
part C pins: 8 IN- (in), 9 IN+ (in), 14 OUT (out)
part D pins: 10 IN- (in), 11 IN+ (in), 13 OUT (out)

## TLC3704QJ
designator U?
Quad Micropower LinCMOS Voltage Comparator; Published: 23-Sep-2002; LatestRevisionDate: 04-Mar-2005; LatestRevisionNote: Stylized 3D Model Added.; DatasheetVersion: Jan-2002; PackageVersion: Jun-1999; PackageReference: J014; Publisher: Altium Limited; PackageDescription: DIP; 14 Leads; Row Spacing 7.62 mm; Pitch 2.54 mm; ComponentLink1Description: Manufacturer Link; ComponentLink1URL: http://www.ti.com/; ComponentLink2Description: Datasheet; ComponentLink2URL: http://www-s.ti.com/sc/ds/tlc3704.pdf
footprint J014 (DIP; 14 Leads; Row Spacing 7.62 mm; Pitch 2.54 mm)
3D model J014 (DIP; 14 Leads; Row Spacing 7.62 mm; Pitch 2.54 mm)
simulation model TLC3704 (SUBCKT)
pins on every part: 3 VCC (power), 12 GND (power)
part A pins: 2 OUT (out), 4 IN- (in), 5 IN+ (in)
part B pins: 1 OUT (out), 6 IN- (in), 7 IN+ (in)
part C pins: 8 IN- (in), 9 IN+ (in), 14 OUT (out)
part D pins: 10 IN- (in), 11 IN+ (in), 13 OUT (out)